# Altium schematic symbol library [CON] Разъемы IDC.SchLib: 1 symbol
Pins are listed as number, name and electrical type; pins without a type are passive.

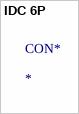
[diagram p0: symbol IDC 6P]

## IDC 6P
designator CON*